# Altium footprint library TPS62822.PcbLib: 1 footprints
Each footprint in its own frame and in the unit in brackets; x right, y up, seen from the top. Pads: shape width x height; smd on the part's side, far side on the other; paste and mask are expansions set on the pad; w line width, h text height; cw(c..) or ccw(c..) is an arc to the next point about the centre after c.
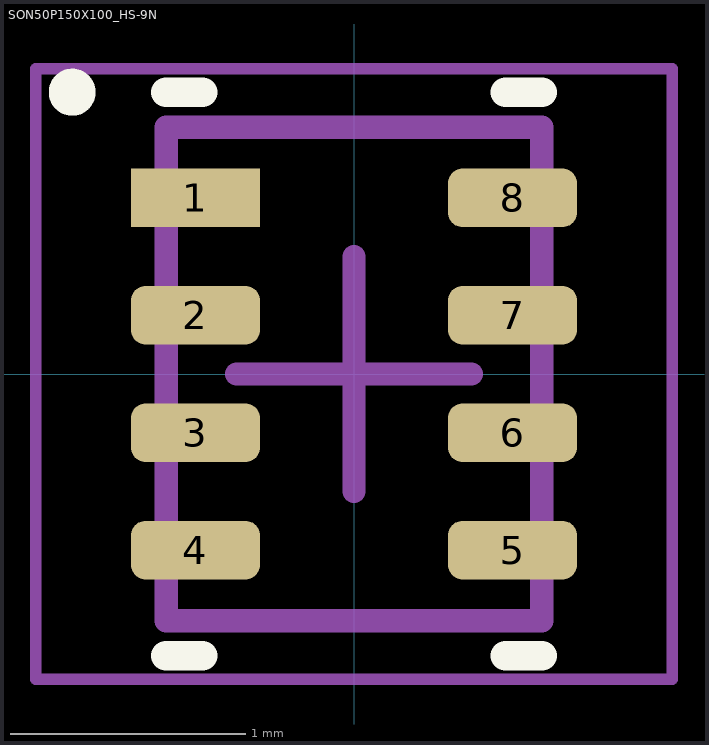
[diagram p0: the footprint, top view; thin cyan lines are the x and y axes]

## SON50P150X100_HS-9N [mm] "SON, 8-Leads, Body 2.00x1.50mm, Pitch 0.50mm, Thermal Pad 1.00x0.69mm, IPC Medium Density"
height 1
pads (8):
  rect 0.55x0.25 smd mask+0.051: 1(-0.675,0.75)
  rrect50% 0.55x0.25 smd mask+0.051: 2(-0.675,0.25) 3(-0.675,-0.25) 4(-0.675,-0.75) 5(0.675,-0.75) 6(0.675,-0.25) 7(0.675,0.25) 8(0.675,0.75)
Top Overlay:
  circle w0.1: c-1.2,1.2 r0.05
  lines w0.127: -0.8,-1.2 -0.645,-1.2 ; -0.8,1.2 -0.645,1.2 ; 0.645,-1.2 0.8,-1.2 ; 0.645,1.2 0.8,1.2
Mechanical 13:
  lines w0.1: -0.8,-1.05 -0.8,1.05 0.8,1.05 0.8,-1.05 -0.8,-1.05
Mechanical 15:
  lines w0.05: -1.355,-1.3 -1.355,1.3 1.355,1.3 1.355,-1.3 -1.355,-1.3
  lines w0.1: -0.5,0 0.5,0 ; 0,-0.5 0,0.5
3D body: height 1, standoff 0, extent -0.8,-1.05 0.8,1.05